# Altium schematic symbol library MergenElektronik_Microcontrollers_Espressifs.SchLib: 3 symbols
Pins are listed as number, name and electrical type; pins without a type are passive.

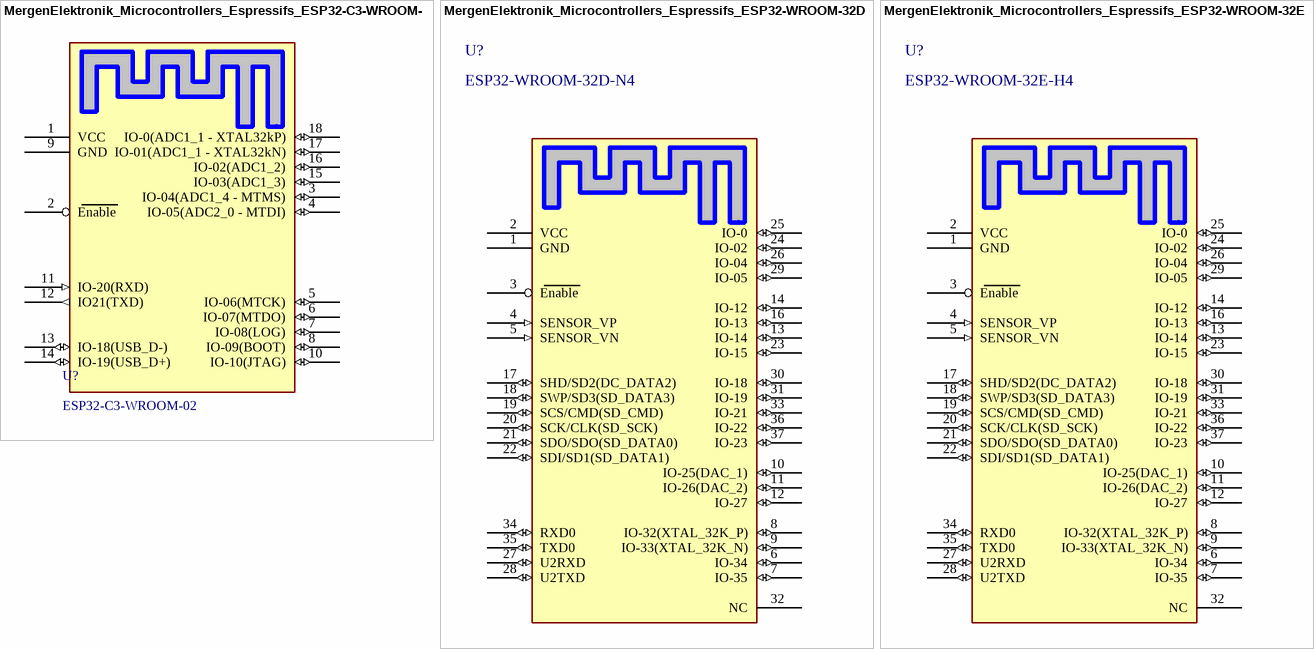
[diagram p0: symbols MergenElektronik_Microcontrollers_Espressifs_ESP32-C3-WROOM-02 to MergenElektronik_Microcontrollers_Espressifs_ESP32-WROOM-32E-H4]

## MergenElektronik_Microcontrollers_Espressifs_ESP32-C3-WROOM-02
designator U?, comment ESP32-C3-WROOM-02
Mergen Elektronik - Microcontrollers - Espressifs - ESP32-C3-WROOM-02; Manufacturer: Espressif Systems; Manufacturer Number: ESP32-C3-WROOM-02-N4; Operating Supply Voltage: 3V up to 3.6V; Value: ESP32-C3-WROOM; Model: ESP32-C3-WROOM-02; Package: ESP32-C3-WROOM-02; Temperature: -40°C up to +85°C(TA); Digi-Key Number: 1965-ESP32-C3-WROOM-02-N4CT-ND; Mouser Number: 356-ESP32C3WROOM02N4; Mounting Type: Surface Mount; Supplier 1: Mouser; Supplier Part Number 1: 356-ESP32C3WROOM02N4
footprint MergenElektronik_Microcontrollers_Espressifs_ESP32-C3-WROOM-02 (ESP32-C3-WROOM-02)
pins: 1 VCC (power), 2 Enable, 3 IO-04(ADC1_4 - MTMS) (io) "GPIO-04", 4 IO-05(ADC2_0 - MTDI) (io) "GPIO-05", 5 IO-06(MTCK) (io) "GPIO-06", 6 IO-07(MTDO) (io) "GPIO-07", 7 IO-08(LOG) (io) "GPIO-08", 8 IO-09(BOOT) (io) "GPIO-09", 9 GND, 10 IO-10(JTAG) (io) "GPIO-10", 11 IO-20(RXD) (in) "GPIO-20", 12 IO21(TXD) (out) "GPIO-21", 13 IO-18(USB_D-) (io) "GPIO-18", 14 IO-19(USB_D+) (io) "GPIO-19", 15 IO-03(ADC1_3) (io) "GPIO-03", 16 IO-02(ADC1_2) (io) "GPIO-02", 17 IO-01(ADC1_1 - XTAL32kN) (io) "GPIO-01", 18 IO-0(ADC1_1 - XTAL32kP) (io) "GPIO-0"

## MergenElektronik_Microcontrollers_Espressifs_ESP32-WROOM-32D-N4
designator U?, comment ESP32-WROOM-32D-N4
Mergen Elektronik - Microcontrollers - Espressifs - ESP32-WROOM-32D-N4; Manufacturer: Espressif Systems; Operating Voltage: 2.7V up to 3.6V; Temperature: -40°C up to +80°C; Value: ESP32-WROOM-32D-N4; Manufacturer Number: ESP32-WROOM-32D-N4; Model: ESP32-WROOM-32D-N4; Mounting Type: Surface Mount; Digi-Key Number: 1965-ESP32-WROOM-32D-N4CT-ND; Mouser Number: 356-ESP32WROOM-32D; Package: ESP32-WROOM-32; Supplier 1: Digi-Key; Supplier 2: Mouser; Supplier Part Number 1: 1965-ESP32-WROOM-32D-N4DKR-ND; Supplier Part Number 2: 356-ESP32WROOM-32D
footprint MergenElektronik_Microcontrollers_Espressifs_ESP32-WROOM-32 (ESP32-WROOM-32)
pins: 1 GND (power), 2 VCC (power), 3 Enable, 4 SENSOR_VP (in) "GPIO-36", 5 SENSOR_VN (in) "GPIO-39", 6 IO-34 (io) "GPIO-34", 7 IO-35 (io) "GPIO35", 8 IO-32(XTAL_32K_P) (io) "GPIO-323", 9 IO-33(XTAL_32K_N) (io) "GPIO-33", 10 IO-25(DAC_1) (io) "GPIO-25", 11 IO-26(DAC_2) (io) "GPIO-25", 12 IO-27 (io) "GPIO-27", 13 IO-14 (io) "GPIO-14", 14 IO-12 (io) "GPIO-12", 16 IO-13 (io) "GPIO-13", 17 SHD/SD2(DC_DATA2) (io) "GPIO-09", 18 SWP/SD3(SD_DATA3) (io) "GPIO-10", 19 SCS/CMD(SD_CMD) (io) "GPIO-011", 20 SCK/CLK(SD_SCK) (io) "GPIO-06", 21 SDO/SDO(SD_DATA0) (io) "GPIO-07", 22 SDI/SD1(SD_DATA1) (io) "GPIO-08", 23 IO-15 (io) "GPIO-15", 24 IO-02 (io) "GPIO-02", 25 IO-0 (io) "GPIO-0", 26 IO-04 (io) "GPIO-04", 27 U2RXD (io) "GPIO-16", 28 U2TXD (io) "GPIO-17", 29 IO-05 (io) "GPIO-04", 30 IO-18 (io) "GPIO-18", 31 IO-19 (io) "GPIO-19", 32 NC, 33 IO-21 (io) "GPIO-21", 34 RXD0 (io) "GPIO-21", 35 TXD0 (io) "GPIO-1", 36 IO-22 (io) "GPIO-22", 37 IO-23 (io) "GPIO-23"

## MergenElektronik_Microcontrollers_Espressifs_ESP32-WROOM-32E-H4
designator U?, comment ESP32-WROOM-32E-H4
Mergen Elektronik - Microcontrollers - Espressifs - ESP32-WROOM-32E-H4; Manufacturer: Espressif Systems; Value: ESP32-WROOM-32D-N4; Operating Voltage: 3V up to 3.6V; Temperature: -40°C up to +105°C; Manufacturer Number: ESP32-WROOM-32E-H4; Model: ESP32-WROOM-32E-H4; Mounting Type: Surface Mount; Digi-Key Number: 1965-ESP32-WROOM-32E-H4CT-ND; Mouser Number: 356-ESP32WRM320EH3PS; Package: ESP32-WROOM-32; Supplier 1: Mouser; Supplier 2: Digi-Key; Supplier Part Number 1: 356-ESP32WRM320EH3PS; Supplier Part Number 2: 1965-ESP32-WROOM-32E-H4DKR-ND
footprint MergenElektronik_Microcontrollers_Espressifs_ESP32-WROOM-32 (ESP32-WROOM-32)
pins: 1 GND (power), 2 VCC (power), 3 Enable, 4 SENSOR_VP (in) "GPIO-36", 5 SENSOR_VN (in) "GPIO-39", 6 IO-34 (io) "GPIO-34", 7 IO-35 (io) "GPIO35", 8 IO-32(XTAL_32K_P) (io) "GPIO-323", 9 IO-33(XTAL_32K_N) (io) "GPIO-33", 10 IO-25(DAC_1) (io) "GPIO-25", 11 IO-26(DAC_2) (io) "GPIO-25", 12 IO-27 (io) "GPIO-27", 13 IO-14 (io) "GPIO-14", 14 IO-12 (io) "GPIO-12", 16 IO-13 (io) "GPIO-13", 17 SHD/SD2(DC_DATA2) (io) "GPIO-09", 18 SWP/SD3(SD_DATA3) (io) "GPIO-10", 19 SCS/CMD(SD_CMD) (io) "GPIO-011", 20 SCK/CLK(SD_SCK) (io) "GPIO-06", 21 SDO/SDO(SD_DATA0) (io) "GPIO-07", 22 SDI/SD1(SD_DATA1) (io) "GPIO-08", 23 IO-15 (io) "GPIO-15", 24 IO-02 (io) "GPIO-02", 25 IO-0 (io) "GPIO-0", 26 IO-04 (io) "GPIO-04", 27 U2RXD (io) "GPIO-16", 28 U2TXD (io) "GPIO-17", 29 IO-05 (io) "GPIO-04", 30 IO-18 (io) "GPIO-18", 31 IO-19 (io) "GPIO-19", 32 NC, 33 IO-21 (io) "GPIO-21", 34 RXD0 (io) "GPIO-21", 35 TXD0 (io) "GPIO-1", 36 IO-22 (io) "GPIO-22", 37 IO-23 (io) "GPIO-23"